# EAGLE library part ARDUINO-PRO-MINI-LIMITED (library Nextion handheld controller)
Arduion Pro Mini Clone V1.0 www.betemcu.cu
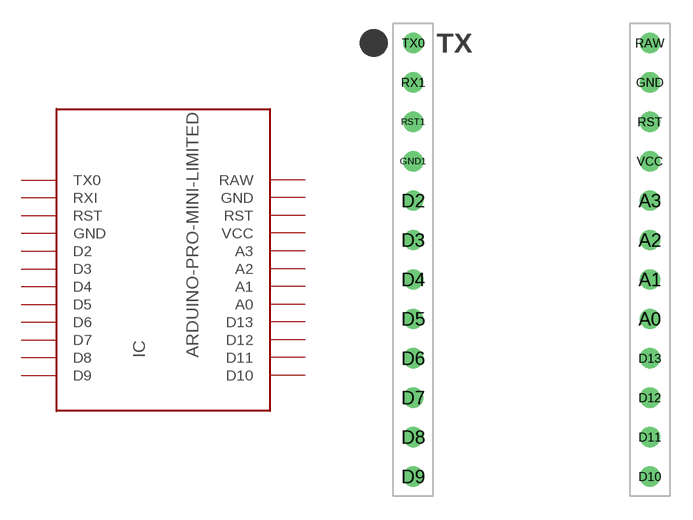
[diagram p11: symbol with the pads of ARDUINO-PRO-MINI-LIMITED; footprint ARDUINO-PRO-MINI-LIMITED]

Designator prefix IC

## ARDUINO-PRO-MINI-LIMITED  [ARDUINO-PRO-MINI-LIMITED]
A0  A0
A1  A1
A2  A2
A3  A3
D2  D2
D3  D3
D4  D4
D5  D5
D6  D6
D7  D7
D8  D8
D9  D9
D10  D10
D11  D11
D12  D12
D13  D13
GND  GND  nc
GND1  GND  in
RAW  RAW  nc
RST  RST  nc
RST1  RST  nc
RX1  RXI  nc
TX0  TX0  nc
VCC  VCC  pwr

## Footprint ARDUINO-PRO-MINI-LIMITED (pad centres in mm)
Arduino Pro Mini Clone
drill 0.8: A0 7.62,-3.81; A1 7.62,-1.27; A2 7.62,1.27; A3 7.62,3.81; D2 -7.62,3.81; D3 -7.62,1.27; D4 -7.62,-1.27; D5 -7.62,-3.81; D6 -7.62,-6.35; D7 -7.62,-8.89; D8 -7.62,-11.43; D9 -7.62,-13.97; D10 7.62,-13.97; D11 7.62,-11.43; D12 7.62,-8.89; D13 7.62,-6.35; GND 7.62,11.43; GND1 -7.62,6.35; RAW 7.62,13.97; RST 7.62,8.89; RST1 -7.62,8.89; RX1 -7.62,11.43; TX0 -7.62,13.97; VCC 7.62,6.35